# Altium footprint library 157.PcbLib: 3 footprints
Each footprint in its own frame and in the unit in brackets; x right, y up, seen from the top. Pads: shape width x height; smd on the part's side, far side on the other; paste and mask are expansions set on the pad; w line width, h text height; cw(c..) or ccw(c..) is an arc to the next point about the centre after c.
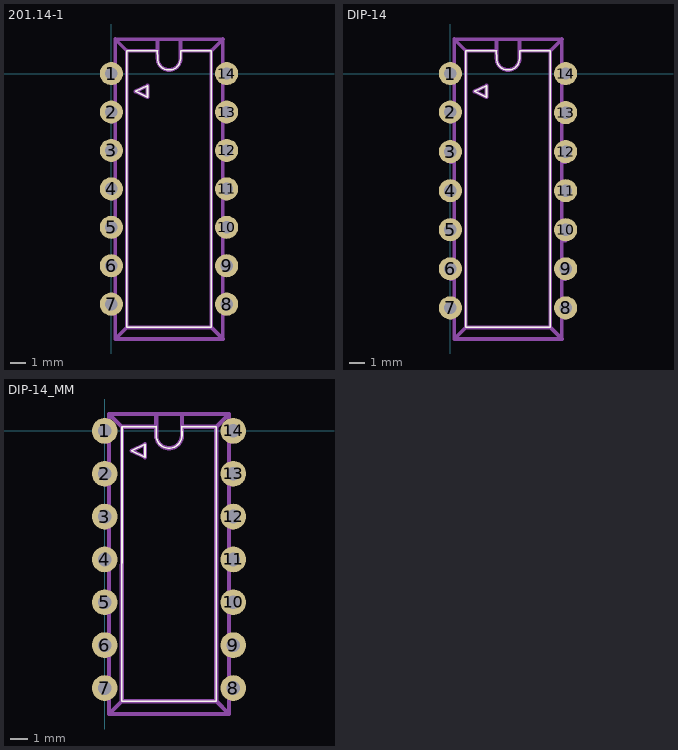
[diagram p0: the footprints below, top view; thin cyan lines are the x and y axes]

## 201.14-1 [mm]
pads (14):
  round 1.5 hole 0.8: 1(0,0) 2(0,-2.5) 3(0,-5) 4(0,-7.5) 5(0,-10) 6(0,-12.5) 7(0,-15) 8(7.5,-15) 9(7.5,-12.5) 10(7.5,-10) 11(7.5,-7.5) 12(7.5,-5) 13(7.5,-2.5) 14(7.5,0)
Top Overlay:
  lines w0.1: 1,-16.5 1,1.5 ; 1.004,-16.516 6.504,-16.516 ; 1.004,1.484 3.004,1.484 ; 3,1.5 3.004,0.984 ccw(c3.754,0.984) 4.504,0.984 4.5,1.5 ; 4.504,1.484 6.504,1.484 ; 6.5,-16.5 6.5,1.5 ; 1.576,-1.161 2.352,-1.541 2.352,-0.781 1.576,-1.161
Mechanical 1:
  lines w0.25: -0.2,0 0,0 ; 0.004,-15.316 -0.219,-15.316 -0.219,-15.016 -0.219,-14.716 0.004,-14.716 ; 0.004,-12.816 -0.219,-12.816 -0.219,-12.516 -0.219,-12.216 0.004,-12.216 ; 0.004,-10.316 -0.219,-10.316 -0.219,-10.016 -0.219,-9.716 0.004,-9.716 ; 0.004,-7.816 -0.219,-7.816 -0.219,-7.516 -0.219,-7.216 0.004,-7.216 ; 0.004,-5.316 -0.219,-5.316 -0.219,-5.016 -0.219,-4.716 0.004,-4.716 ; 0.004,-2.816 -0.219,-2.816 -0.219,-2.516 -0.219,-2.216 0.004,-2.216 ; 0.004,-0.316 -0.219,-0.316 -0.219,-0.016 -0.219,0.284 0.004,0.284 ; 0.25,-17.25 0.25,2.25 ; 0.254,-15.616 0.004,-15.616 0.004,-14.416 0.254,-14.416 ; 0.254,-13.116 0.004,-13.116 0.004,-11.916 0.254,-11.916 ; 0.254,-10.616 0.004,-10.616 0.004,-9.416 0.254,-9.416 ; 0.254,-8.116 0.004,-8.116 0.004,-6.916 0.254,-6.916 ; 0.254,-5.616 0.004,-5.616 0.004,-4.416 0.254,-4.416 ; 0.254,-3.116 0.004,-3.116 0.004,-1.916 0.254,-1.916 ; 0.254,-0.616 0.004,-0.616 0.004,0.584 0.254,0.584 ; 1,-16.5 1,1.5 ; 3.004,1.484 1.004,1.484 0.254,2.234 7.254,2.234 6.504,1.484 4.504,1.484 ; 3.004,2.234 3.004,0.984 ccw(c3.754,0.984) 4.504,0.984 4.504,2.234 ; 6.5,-16.5 6.5,1.5 ; 7.25,-17.25 7.25,2.25 ; 7.254,-15.616 7.504,-15.616 7.504,-14.416 7.254,-14.416 ; 7.254,-13.116 7.504,-13.116 7.504,-11.916 7.254,-11.916 ; 7.254,-10.616 7.504,-10.616 7.504,-9.416 7.254,-9.416 ; 7.254,-8.116 7.504,-8.116 7.504,-6.916 7.254,-6.916 ; 7.254,-5.616 7.504,-5.616 7.504,-4.416 7.254,-4.416 ; 7.254,-3.116 7.504,-3.116 7.504,-1.916 7.254,-1.916 ; 7.254,-0.616 7.504,-0.616 7.504,0.584 7.254,0.584 ; 7.504,-15.316 7.727,-15.316 7.727,-15.016 7.727,-14.716 7.504,-14.716 ; 7.504,-12.816 7.727,-12.816 7.727,-12.516 7.727,-12.216 7.504,-12.216 ; 7.504,-10.316 7.727,-10.316 7.727,-10.016 7.727,-9.716 7.504,-9.716 ; 7.504,-7.816 7.727,-7.816 7.727,-7.516 7.727,-7.216 7.504,-7.216 ; 7.504,-5.316 7.727,-5.316 7.727,-5.016 7.727,-4.716 7.504,-4.716 ; 7.504,-2.816 7.727,-2.816 7.727,-2.516 7.727,-2.216 7.504,-2.216 ; 7.504,-0.316 7.727,-0.316 7.727,-0.016 7.727,0.284 7.504,0.284 ; 0.254,-17.266 7.254,-17.266 6.504,-16.516 1.004,-16.516 0.254,-17.266 ; 1.576,-1.161 2.352,-1.541 2.352,-0.781 1.576,-1.161

## DIP-14 [mm]
pads (14):
  round 1.5 hole 0.8: 1(0,0) 2(0,-2.5) 3(0,-5.08) 4(0,-7.62) 5(0,-10.16) 6(0,-12.7) 7(0,-15.24) 8(7.5,-15.24) 9(7.5,-12.7) 10(7.5,-10.16) 11(7.5,-7.62) 12(7.5,-5.08) 13(7.5,-2.54) 14(7.5,0)
Top Overlay:
  lines w0.1: 1,-16.5 1,1.5 ; 1.004,-16.516 6.504,-16.516 ; 1.004,1.484 3.004,1.484 ; 3,1.5 3.004,0.984 ccw(c3.754,0.984) 4.504,0.984 4.5,1.5 ; 4.504,1.484 6.504,1.484 ; 6.5,-16.5 6.5,1.5 ; 1.576,-1.161 2.352,-1.541 2.352,-0.781 1.576,-1.161
Mechanical 1:
  lines w0.25: -0.2,0 0,0 ; 0.004,-15.566 -0.219,-15.566 -0.219,-15.266 -0.219,-14.966 0.004,-14.966 ; 0.004,-13.066 -0.219,-13.066 -0.219,-12.766 -0.219,-12.466 0.004,-12.466 ; 0.004,-10.441 -0.219,-10.441 -0.219,-10.141 -0.219,-9.841 0.004,-9.841 ; 0.004,-7.941 -0.219,-7.941 -0.219,-7.641 -0.219,-7.341 0.004,-7.341 ; 0.004,-5.441 -0.219,-5.441 -0.219,-5.141 -0.219,-4.841 0.004,-4.841 ; 0.004,-2.816 -0.219,-2.816 -0.219,-2.516 -0.219,-2.216 0.004,-2.216 ; 0.004,-0.316 -0.219,-0.316 -0.219,-0.016 -0.219,0.284 0.004,0.284 ; 0.25,-17.25 0.25,2.25 ; 0.254,-15.866 0.004,-15.866 0.004,-14.666 0.254,-14.666 ; 0.254,-13.366 0.004,-13.366 0.004,-12.166 0.254,-12.166 ; 0.254,-10.741 0.004,-10.741 0.004,-9.541 0.254,-9.541 ; 0.254,-8.241 0.004,-8.241 0.004,-7.041 0.254,-7.041 ; 0.254,-5.741 0.004,-5.741 0.004,-4.541 0.254,-4.541 ; 0.254,-3.116 0.004,-3.116 0.004,-1.916 0.254,-1.916 ; 0.254,-0.616 0.004,-0.616 0.004,0.584 0.254,0.584 ; 1,-16.5 1,1.5 ; 3.004,1.484 1.004,1.484 0.254,2.234 7.254,2.234 6.504,1.484 4.504,1.484 ; 3.004,2.234 3.004,0.984 ccw(c3.754,0.984) 4.504,0.984 4.504,2.234 ; 6.5,-16.5 6.5,1.5 ; 7.25,-17.25 7.25,2.25 ; 7.254,-15.866 7.504,-15.866 7.504,-14.666 7.254,-14.666 ; 7.254,-13.366 7.504,-13.366 7.504,-12.166 7.254,-12.166 ; 7.254,-10.866 7.504,-10.866 7.504,-9.666 7.254,-9.666 ; 7.254,-8.241 7.504,-8.241 7.504,-7.041 7.254,-7.041 ; 7.254,-5.741 7.504,-5.741 7.504,-4.541 7.254,-4.541 ; 7.254,-3.116 7.504,-3.116 7.504,-1.916 7.254,-1.916 ; 7.254,-0.616 7.504,-0.616 7.504,0.584 7.254,0.584 ; 7.504,-15.566 7.727,-15.566 7.727,-15.266 7.727,-14.966 7.504,-14.966 ; 7.504,-13.066 7.727,-13.066 7.727,-12.766 7.727,-12.466 7.504,-12.466 ; 7.504,-10.566 7.727,-10.566 7.727,-10.266 7.727,-9.966 7.504,-9.966 ; 7.504,-7.941 7.727,-7.941 7.727,-7.641 7.727,-7.341 7.504,-7.341 ; 7.504,-5.441 7.727,-5.441 7.727,-5.141 7.727,-4.841 7.504,-4.841 ; 7.504,-2.816 7.727,-2.816 7.727,-2.516 7.727,-2.216 7.504,-2.216 ; 7.504,-0.316 7.727,-0.316 7.727,-0.016 7.727,0.284 7.504,0.284 ; 0.254,-17.266 7.254,-17.266 6.504,-16.516 1.004,-16.516 0.254,-17.266 ; 1.576,-1.161 2.352,-1.541 2.352,-0.781 1.576,-1.161

## DIP-14_MM [mm]
pads (14):
  round 1.5 hole 0.8: 1(0,0) 2(0,-2.5) 3(0,-5) 4(0,-7.5) 5(0,-10) 6(0,-12.5) 7(0,-15) 8(7.5,-15) 9(7.5,-12.5) 10(7.5,-10) 11(7.5,-7.5) 12(7.5,-5) 13(7.5,-2.5) 14(7.5,0)
Top Overlay:
  lines w0.1: 1,-15.75 1.004,0.234 3.004,0.234 ; 1.004,-15.766 6.504,-15.766 ; 3,0.25 3.004,-0.266 ccw(c3.754,-0.266) 4.504,-0.266 4.5,0.25 ; 4.504,0.234 6.504,0.234 6.5,-15.75 ; 1.576,-1.161 2.352,-1.541 2.352,-0.781 1.576,-1.161
Mechanical 1:
  lines w0.25: -0.2,0 0,0 ; 0.004,-15.316 -0.219,-15.316 -0.219,-15.016 -0.219,-14.716 0.004,-14.716 ; 0.004,-12.816 -0.219,-12.816 -0.219,-12.516 -0.219,-12.216 0.004,-12.216 ; 0.004,-10.316 -0.219,-10.316 -0.219,-10.016 -0.219,-9.716 0.004,-9.716 ; 0.004,-7.816 -0.219,-7.816 -0.219,-7.516 -0.219,-7.216 0.004,-7.216 ; 0.004,-5.316 -0.219,-5.316 -0.219,-5.016 -0.219,-4.716 0.004,-4.716 ; 0.004,-2.816 -0.219,-2.816 -0.219,-2.516 -0.219,-2.216 0.004,-2.216 ; 0.004,-0.316 -0.219,-0.316 -0.219,-0.016 -0.219,0.284 0.004,0.284 ; 0.25,-16.5 0.254,0.984 ; 0.254,-15.616 0.004,-15.616 0.004,-14.416 0.254,-14.416 ; 0.254,-13.116 0.004,-13.116 0.004,-11.916 0.254,-11.916 ; 0.254,-10.616 0.004,-10.616 0.004,-9.416 0.254,-9.416 ; 0.254,-8.116 0.004,-8.116 0.004,-6.916 0.254,-6.916 ; 0.254,-5.616 0.004,-5.616 0.004,-4.416 0.254,-4.416 ; 0.254,-3.116 0.004,-3.116 0.004,-1.916 0.254,-1.916 ; 0.254,-0.616 0.004,-0.616 0.004,0.584 0.254,0.584 ; 1,-15.75 1.004,0.234 ; 3.004,0.234 1.004,0.234 ; 3.004,0.984 3.004,-0.266 ccw(c3.754,-0.266) 4.504,-0.266 4.504,0.984 ; 4.504,0.234 6.504,0.234 ; 6.5,-15.75 6.504,0.234 ; 7.25,-16.5 7.254,0.984 ; 7.254,-15.616 7.504,-15.616 7.504,-14.416 7.254,-14.416 ; 7.254,-13.116 7.504,-13.116 7.504,-11.916 7.254,-11.916 ; 7.254,-10.616 7.504,-10.616 7.504,-9.416 7.254,-9.416 ; 7.254,-8.116 7.504,-8.116 7.504,-6.916 7.254,-6.916 ; 7.254,-5.616 7.504,-5.616 7.504,-4.416 7.254,-4.416 ; 7.254,-3.116 7.504,-3.116 7.504,-1.916 7.254,-1.916 ; 7.254,-0.616 7.504,-0.616 7.504,0.584 7.254,0.584 ; 7.504,-15.316 7.727,-15.316 7.727,-15.016 7.727,-14.716 7.504,-14.716 ; 7.504,-12.816 7.727,-12.816 7.727,-12.516 7.727,-12.216 7.504,-12.216 ; 7.504,-10.316 7.727,-10.316 7.727,-10.016 7.727,-9.716 7.504,-9.716 ; 7.504,-7.816 7.727,-7.816 7.727,-7.516 7.727,-7.216 7.504,-7.216 ; 7.504,-5.316 7.727,-5.316 7.727,-5.016 7.727,-4.716 7.504,-4.716 ; 7.504,-2.816 7.727,-2.816 7.727,-2.516 7.727,-2.216 7.504,-2.216 ; 7.504,-0.316 7.727,-0.316 7.727,-0.016 7.727,0.284 7.504,0.284 ; 0.254,0.984 7.254,0.984 ; 0.254,0.984 1.004,0.234 ; 6.504,0.234 7.254,0.984 ; 0.254,-16.516 7.254,-16.516 6.504,-15.766 1.004,-15.766 0.254,-16.516 ; 1.576,-1.161 2.352,-1.541 2.352,-0.781 1.576,-1.161